# Altium footprint library 002-Capacitance.PcbLib: 11 footprints
Each footprint in its own frame and in the unit in brackets; x right, y up, seen from the top. Pads: shape width x height; smd on the part's side, far side on the other; paste and mask are expansions set on the pad; w line width, h text height; cw(c..) or ccw(c..) is an arc to the next point about the centre after c.
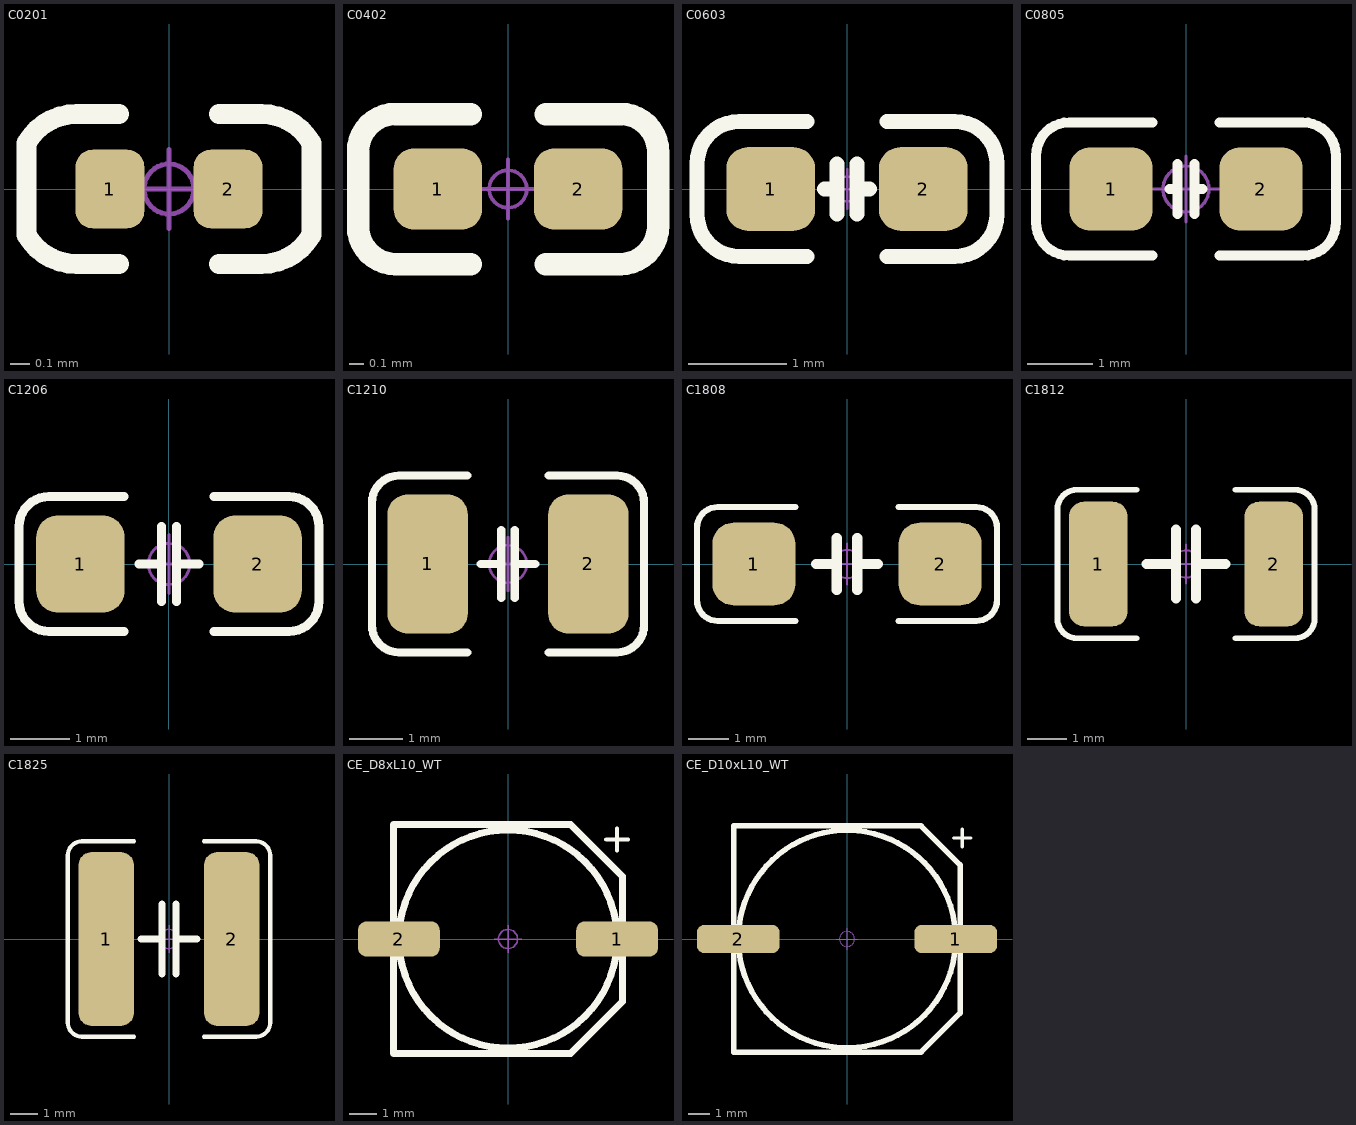
[diagram p0: the footprints below, top view; thin cyan lines are the x and y axes]

## C0201 [mm] "0201-贴片MLCC电容"
pads (2):
  rrect50% 0.35x0.4 smd: 1(-0.3,0) 2(0.3,0)
Top Overlay:
  lines w0.102: -0.254,-0.381 -0.47,-0.381 cw(c-0.47,-0.089) -0.724,-0.233 -0.724,0.233 cw(c-0.47,0.089) -0.47,0.381 ; -0.254,0.381 -0.47,0.381 ; 0.254,-0.381 0.47,-0.381 ccw(c0.47,-0.089) 0.724,-0.233 0.724,0.233 ccw(c0.47,0.089) 0.47,0.381 ; 0.254,0.381 0.47,0.381 ; -0.47,0.381 ccw(c-0.47,0.381) -0.47,0.381 ; 0.47,0.381 ccw(c0.47,0.381) 0.47,0.381
Mechanical 15:
  circle w0.025: c0,0 r0.127
  lines w0.025: -0.2,0 0.2,0 ; 0,-0.2 0,0.2
3D body "C0201.step": height 0.3, standoff 0, extent -0.3,-0.15 0.3,0.15

## C0402 [mm] "0402-贴片MLCC电容"
pads (2):
  rrect50% 0.6x0.55 smd: 1(-0.475,0) 2(0.475,0)
Top Overlay:
  lines w0.152: -0.254,-0.508 -0.762,-0.508 cw(c-0.762,-0.254) -1.016,-0.254 -1.016,0.254 cw(c-0.762,0.254) -0.762,0.508 -0.254,0.508 ; 0.254,-0.508 0.762,-0.508 ccw(c0.762,-0.254) 1.016,-0.254 1.016,0.254 ccw(c0.762,0.254) 0.762,0.508 0.254,0.508
Mechanical 15:
  circle w0.025: c0,0 r0.127
  lines w0.025: -0.2,0 0.2,0 ; 0,-0.2 0,0.2
3D body "C0402.step": height 0.5, standoff 0, extent -0.5,-0.25 0.5,0.25

## C0603 [mm] "0603-贴片MLCC电容"
pads (2):
  rrect50% 0.9x0.85 smd: 1(-0.775,0) 2(0.775,0)
Top Overlay:
  lines w0.152: -0.406,-0.686 -1.092,-0.686 cw(c-1.092,-0.254) -1.524,-0.254 -1.524,0.254 cw(c-1.092,0.254) -1.092,0.686 -0.406,0.686 ; -0.229,0 -0.102,0 ; -0.102,-0.254 -0.102,0.254 ; 0.102,-0.254 0.102,0.254 ; 0.102,0 0.229,0 ; 0.406,-0.686 1.092,-0.686 ccw(c1.092,-0.254) 1.524,-0.254 1.524,0.254 ccw(c1.092,0.254) 1.092,0.686 0.406,0.686
Mechanical 15:
  circle w0.025: c0,0 r0.127
  lines w0.025: -0.2,0 0.2,0 ; 0,-0.2 0,0.2
3D body "C0603.step": height 0.8, standoff 0, extent -0.8,-0.4 0.8,0.4

## C0805 [mil] "0805-贴片MLCC电容"
height 19.68
pads (2):
  rrect50% 50x50 smd: 1(-45,0) 2(45,0)
Top Overlay:
  lines w6: -20,-40 -70,-40 cw(c-70,-20) -90,-20 -90,20 cw(c-70,20) -70,40 -20,40 ; -10,0 -5,0 ; -5,-15 -5,15 ; 5,-15 5,15 ; 5,0 10,0 ; 20,-40 70,-40 ccw(c70,-20) 90,-20 90,20 ccw(c70,20) 70,40 20,40
Mechanical 15:
  circle w1.97: c0,0 r13.78
  lines w1.97: -19.68,0 19.68,0 ; 0,-19.68 0,19.68
3D body "C0805.step": height 51.18, standoff -0.01, extent -39.37,-25.59 39.37,25.59

## C1206 [mm] "1206-贴片MLCC电容"
pads (2):
  rrect50% 1.5x1.65 smd: 1(-1.5,0) 2(1.5,0)
Top Overlay:
  lines w0.152: -0.762,-1.143 -2.032,-1.143 cw(c-2.032,-0.635) -2.54,-0.635 -2.54,0.635 cw(c-2.032,0.635) -2.032,1.143 -0.762,1.143 ; -0.508,0 -0.127,0 ; -0.127,-0.635 -0.127,0.635 ; 0.127,-0.635 0.127,0.635 ; 0.127,0 0.508,0 ; 0.762,-1.143 2.032,-1.143 ccw(c2.032,-0.635) 2.54,-0.635 2.54,0.635 ccw(c2.032,0.635) 2.032,1.143 0.762,1.143
Mechanical 15:
  circle w0.05: c0,0 r0.35
  lines w0.05: -0.5,0 0.5,0 ; 0,-0.5 0,0.5
3D body "C1206.step": height 1.3, standoff 0, extent -1.6,-0.8 1.6,0.8

## C1210 [mm] "1210-贴片MLCC电容"
pads (2):
  rrect50% 1.5x2.6 smd: 1(-1.5,0) 2(1.5,0)
Top Overlay:
  lines w0.152: -0.762,-1.651 -2.032,-1.651 cw(c-2.032,-1.143) -2.54,-1.143 -2.54,1.143 cw(c-2.032,1.143) -2.032,1.651 -0.762,1.651 ; -0.508,0 -0.127,0 ; -0.127,-0.635 -0.127,0.635 ; 0.127,-0.635 0.127,0.635 ; 0.127,0 0.508,0 ; 0.762,-1.651 2.032,-1.651 ccw(c2.032,-1.143) 2.54,-1.143 2.54,1.143 ccw(c2.032,1.143) 2.032,1.651 0.762,1.651
Mechanical 15:
  circle w0.05: c0,0 r0.35
  lines w0.05: -0.5,0 0.5,0 ; 0,-0.5 0,0.5
3D body "C1210.step": height 2.5, standoff 0, extent -1.6,-1.25 1.6,1.25

## C1808 [mil] "1808-贴片MLCC电容"
pads (2):
  rrect50% 80x80 smd: 1(-90,0) 2(90,0)
Top Overlay:
  lines w6: -50,-55 -125,-55 cw(c-125,-35) -145,-35 -145,35 cw(c-125,35) -125,55 -50,55 ; 50,-55 125,-55 ccw(c125,-35) 145,-35 145,35 ccw(c125,35) 125,55 50,55
  lines w10: -30,0 -10,0 ; -10,-25 -10,25 ; 10,-25 10,25 ; 10,0 30,0
Mechanical 15:
  circle w1.97: c0,0 r13.78
  lines w1.97: -19.68,0 19.68,0 ; 0,-19.68 0,19.68
3D body "C1808.step": height 78.73, standoff -0.01, extent -88.58,-39.37 88.58,39.37

## C1812 [mm] "1812-贴片MLCC电容"
pads (2):
  rrect50% 1.5x3.2 smd: 1(-2.25,0) 2(2.25,0)
Top Overlay:
  lines w0.152: -1.27,-1.905 -2.794,-1.905 cw(c-2.794,-1.397) -3.302,-1.397 -3.302,1.397 cw(c-2.794,1.397) -2.794,1.905 -1.27,1.905 ; 1.27,-1.905 2.794,-1.905 ccw(c2.794,-1.397) 3.302,-1.397 3.302,1.397 ccw(c2.794,1.397) 2.794,1.905 1.27,1.905
  lines w0.254: -1.016,0 -0.254,0 ; -0.254,-0.889 -0.254,0.889 ; 0.254,-0.889 0.254,0.889 ; 0.254,0 1.016,0
Mechanical 15:
  circle w0.05: c0,0 r0.35
  lines w0.05: -0.5,0 0.5,0 ; 0,-0.5 0,0.5
3D body "C1812.step": height 2.6, standoff 0, extent -2.25,-1.6 2.25,1.6

## C1825 [mil] "1825-贴片MLCC电容"
pads (2):
  rrect50% 80x250 smd: 1(-90,0) 2(90,0)
Top Overlay:
  lines w6: -50,-140 -125,-140 cw(c-125,-120) -145,-120 -145,120 cw(c-125,120) -125,140 -50,140 ; 50,-140 125,-140 ccw(c125,-120) 145,-120 145,120 ccw(c125,120) 125,140 50,140
  lines w10: -40,0 -10,0 ; -10,-50 -10,50 ; 10,-50 10,50 ; 10,0 40,0
Mechanical 15:
  circle w1.97: c0,0 r13.78
  lines w1.97: -19.68,0 19.68,0 ; 0,-19.68 0,19.68
3D body "C1825.step": height 43.3, standoff -0.01, extent -88.58,-125.98 88.59,125.98

## CE_D8xL10_WT [mm] "CE_D8xL10_WT/D=8mm/H=10mm/贴片电解电容"
pads (2):
  rrect50% 3x1.3 smd: 1(4,0) 2(-4,0)
Top Overlay:
  circle w0.254: c0,0 r4
  lines w0.152: 3.6,3.65 4.4,3.65 ; 3.996,3.25 3.996,4.05
  lines w0.254: -4.2,-4.2 -4.2,4.2 2.3,4.2 4.2,2.3 4.2,-2.3 2.3,-4.2 -4.2,-4.2
Mechanical 15:
  circle w0.05: c0,0 r0.35
  lines w0.05: -0.5,0 0.5,0 ; 0,-0.5 0,0.5
3D body "CE_D8xL10_WT.step": height 10.51, standoff 0, extent -4.5,-4.15 4.5,4.15

## CE_D10xL10_WT [mm] "CE_D10xL10_WT/D=10mm/H=10mm/贴片电解电容"
pads (2):
  rrect50% 3.8x1.3 smd: 1(5,0) 2(-5,0)
Top Overlay:
  circle w0.254: c0,0 r5
  lines w0.152: 4.9,4.65 5.7,4.65 ; 5.296,4.25 5.296,5.05
  lines w0.254: 5.191,-3.413 3.404,-5.2 -5.2,-5.2 -5.2,5.2 3.404,5.2 5.2,3.404 5.2,-3.404
Mechanical 15:
  circle w0.05: c0,0 r0.35
  lines w0.05: -0.5,0 0.5,0 ; 0,-0.5 0,0.5
3D body "CE_D10xL10_WT.step": height 12.6, standoff 0, extent -5.5,-5.151 5.5,5.15